# Altium schematic symbol library BD140.SchLib: 1 symbol
Pins are listed as number, name and electrical type; pins without a type are passive.

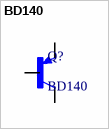
[diagram p0: symbol BD140]

## BD140
designator Q?
footprint TO229P760X270X1364-3
pins: 1 E, 2 C, 3 B